# EAGLE library part 87368-12_S (library con-molex-milli-grid)
RECEPTACAL
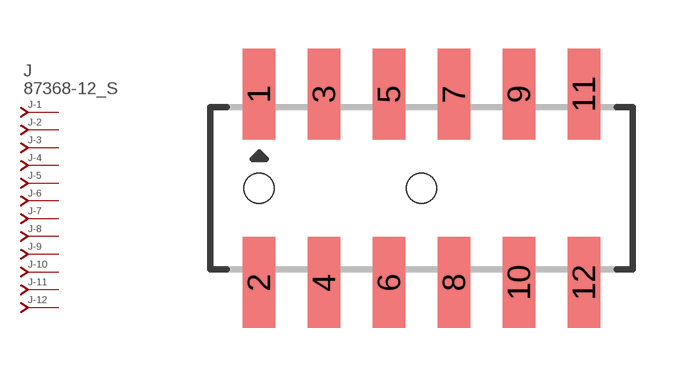
[diagram p307: symbol with the pads of 87368-12; footprint 87368-12]

Designator prefix J; gates -1=J-NV -2=J-N -3=J-N -4=J-N -5=J-N -6=J-N -7=J-N -8=J-N -9=J-N -10=J-N -11=J-N -12=J-N

## 87368-12_S  [87368-12]
1  -1:J  pas
2  -2:J  pas
3  -3:J  pas
4  -4:J  pas
5  -5:J  pas
6  -6:J  pas
7  -7:J  pas
8  -8:J  pas
9  -9:J  pas
10  -10:J  pas
11  -11:J  pas
12  -12:J  pas

## Footprint 87368-12 (pad centres in mm)
RECEPTACAL SMD Dual Row, Side Entry
smd 1 x 2.8: 1 -5,2.9; 2 -5,-2.9; 3 -3,2.9; 4 -3,-2.9; 5 -1,2.9; 6 -1,-2.9; 7 1,2.9; 8 1,-2.9; 9 3,2.9; 10 3,-2.9; 11 5,2.9; 12 5,-2.9
hole 0.914 at -5,0
hole 0.914 at 0,0